# Altium footprint library Linear Technology Power Management LDO Linear Regulators.PcbLib: 77 footprints (part 5 of 5)
Each footprint in its own frame and in the unit in brackets; x right, y up, seen from the top. Pads: shape width x height; smd on the part's side, far side on the other; paste and mask are expansions set on the pad; w line width, h text height; cw(c..) or ccw(c..) is an arc to the next point about the centre after c.
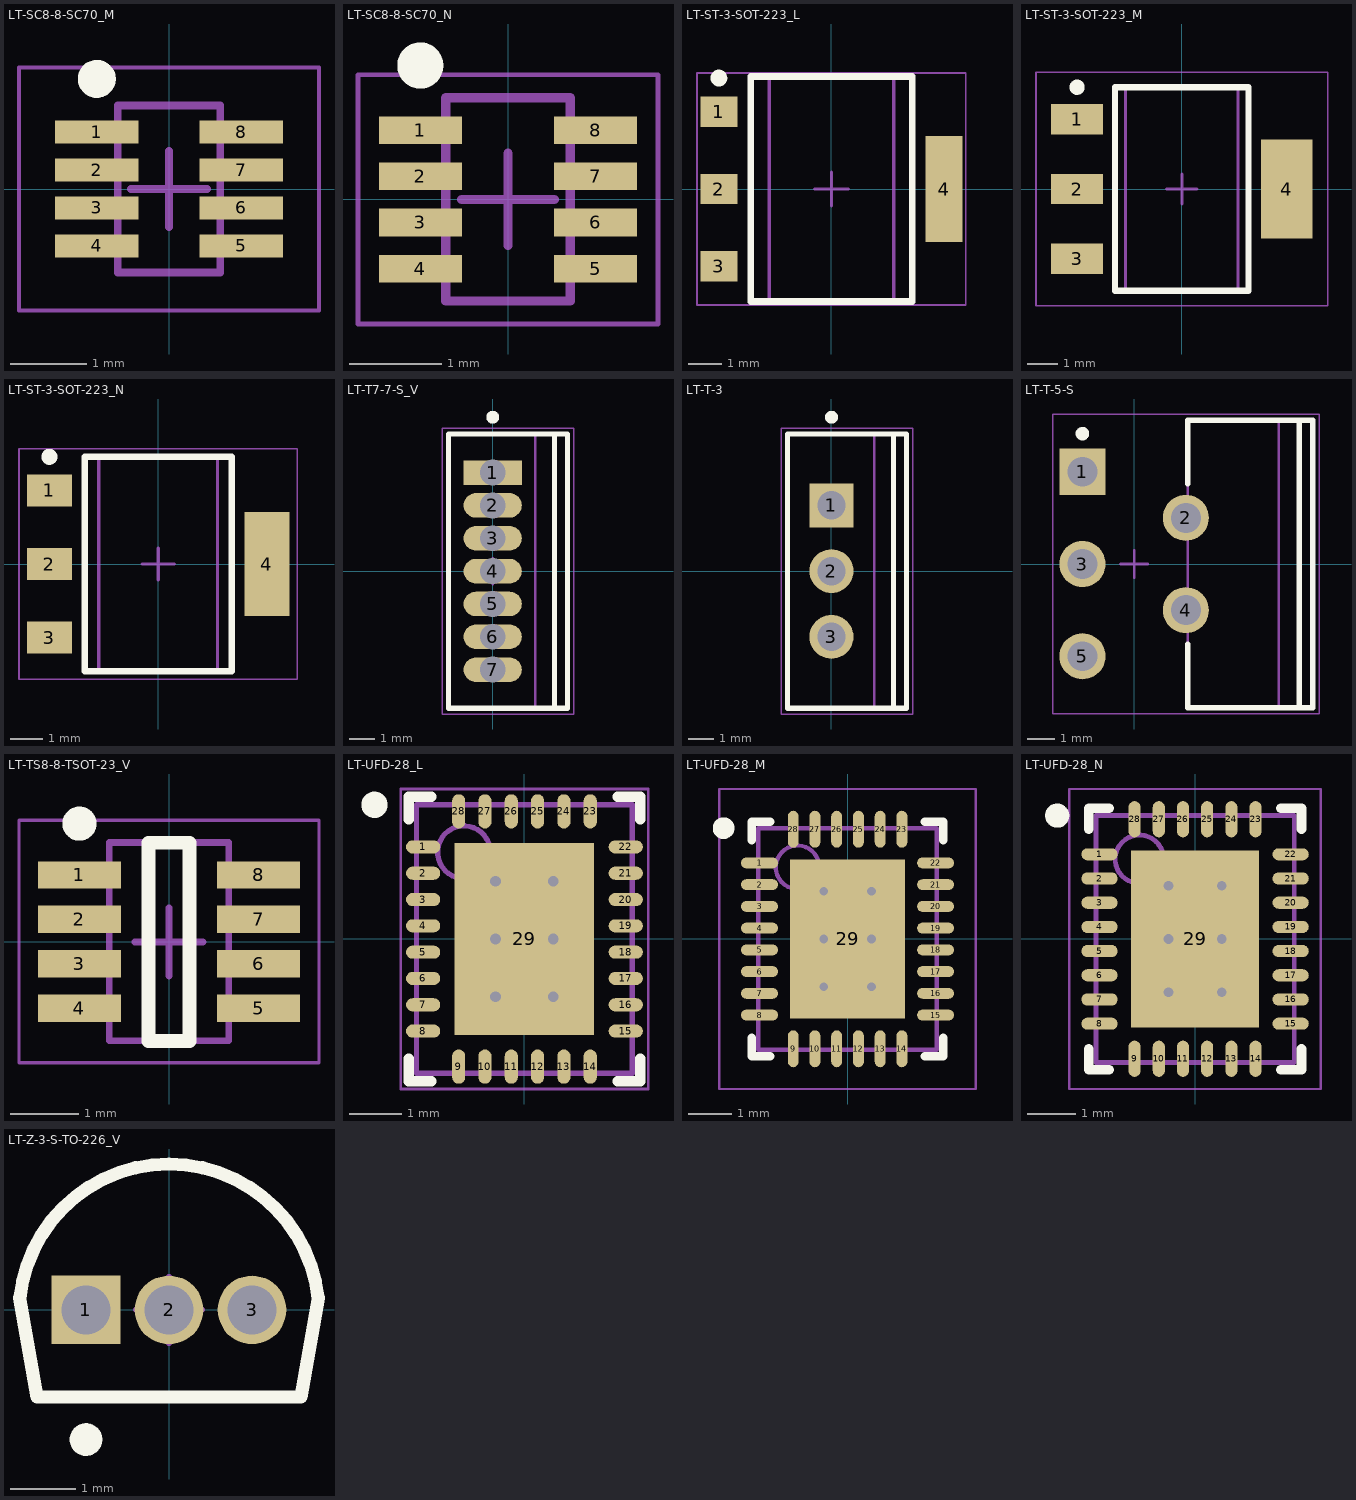
[diagram p4: the footprints below, top view; thin cyan lines are the x and y axes]

## LT-SC8-8-SC70_M [mm] "SOT23, 8-Leads, Body 2x1.25mm, Pitch 0.5mm, IPC Low Density"
height 1
pads (8):
  rect 1.1x0.3 smd: 1(-0.95,0.75) 2(-0.95,0.25) 3(-0.95,-0.25) 4(-0.95,-0.75) 5(0.95,-0.75) 6(0.95,-0.25) 7(0.95,0.25) 8(0.95,0.75)
Top Overlay:
  circle w0.25: c-0.95,1.45 r0.125
Mechanical 13:
  lines w0.1: -0.675,-1.1 0.675,-1.1 0.675,1.1 -0.675,1.1 -0.675,-1.1
Mechanical 15:
  lines w0.05: -1.975,-1.6 1.975,-1.6 1.975,1.6 -1.975,1.6 -1.975,-1.6
  lines w0.1: -0.5,0 0.5,0 ; 0,-0.5 0,0.5
3D body: height 1, standoff 0, extent -0.675,-1.1 0.675,1.1

## LT-SC8-8-SC70_N [mm] "SOT23, 8-Leads, Body 2x1.25mm, Pitch 0.5mm, IPC Medium Density"
height 1
pads (8):
  rect 0.9x0.3 smd: 1(-0.95,0.75) 2(-0.95,0.25) 3(-0.95,-0.25) 4(-0.95,-0.75) 5(0.95,-0.75) 6(0.95,-0.25) 7(0.95,0.25) 8(0.95,0.75)
Top Overlay:
  circle w0.25: c-0.95,1.45 r0.125
Mechanical 13:
  lines w0.1: -0.675,-1.1 0.675,-1.1 0.675,1.1 -0.675,1.1 -0.675,-1.1
Mechanical 15:
  lines w0.05: -1.625,-1.35 1.625,-1.35 1.625,1.35 -1.625,1.35 -1.625,-1.35
  lines w0.1: -0.5,0 0.5,0 ; 0,-0.5 0,0.5
3D body: height 1, standoff 0, extent -0.675,-1.1 0.675,1.1

## LT-ST-3-SOT-223_L [mm] "SOT223, 4-Leads, Body 6.505x3.505mm, Pitch 2.3mm, IPC High Density"
height 1.8
pads (4):
  rect 1.1x0.9 smd: 1(-3.35,2.3) 2(-3.35,0) 3(-3.35,-2.3)
  rect 1.1x3.15 smd: 4(3.35,0)
Top Overlay:
  circle w0.25: c-3.35,3.3 r0.125
  lines w0.2: -2.4,-3.35 -2.4,3.35 2.4,3.35 2.4,-3.35 -2.4,-3.35
Mechanical 13:
  lines w0.1: -1.855,-3.355 -1.855,3.355 1.855,3.355 1.855,-3.355 -1.855,-3.355
Mechanical 15:
  lines w0.05: -4,-3.45 -4,3.45 4,3.45 4,-3.45 -4,-3.45
  lines w0.1: -0.5,0 0.5,0 ; 0,-0.5 0,0.5
3D body: height 1.8, standoff 0.02, extent -1.855,-3.355 1.855,3.355

## LT-ST-3-SOT-223_M [mm] "SOT223, 4-Leads, Body 6.505x3.505mm, Pitch 2.3mm, IPC Low Density"
height 1.8
pads (4):
  rect 1.7x1 smd: 1(-3.45,2.3) 2(-3.45,0) 3(-3.45,-2.3)
  rect 1.7x3.25 smd: 4(3.45,0)
Top Overlay:
  circle w0.25: c-3.45,3.35 r0.125
  lines w0.2: -2.2,-3.35 -2.2,3.35 2.2,3.35 2.2,-3.35 -2.2,-3.35
Mechanical 13:
  lines w0.1: -1.855,-3.355 -1.855,3.355 1.855,3.355 1.855,-3.355 -1.855,-3.355
Mechanical 15:
  lines w0.05: -4.8,-3.85 -4.8,3.85 4.8,3.85 4.8,-3.85 -4.8,-3.85
  lines w0.1: -0.5,0 0.5,0 ; 0,-0.5 0,0.5
3D body: height 1.8, standoff 0.02, extent -1.855,-3.355 1.855,3.355

## LT-ST-3-SOT-223_N [mm] "SOT223, 4-Leads, Body 6.505x3.505mm, Pitch 2.3mm, IPC Medium Density"
height 1.8
pads (4):
  rect 1.4x1 smd: 1(-3.4,2.3) 2(-3.4,0) 3(-3.4,-2.3)
  rect 1.4x3.25 smd: 4(3.4,0)
Top Overlay:
  circle w0.25: c-3.4,3.35 r0.125
  lines w0.2: -2.3,-3.35 2.3,-3.35 2.3,3.35 -2.3,3.35 -2.3,-3.35
Mechanical 13:
  lines w0.1: -1.855,-3.355 1.855,-3.355 1.855,3.355 -1.855,3.355 -1.855,-3.355
Mechanical 15:
  lines w0.05: -4.35,-3.6 4.35,-3.6 4.35,3.6 -4.35,3.6 -4.35,-3.6
  lines w0.1: -0.5,0 0.5,0 ; 0,-0.5 0,0.5
3D body: height 1.8, standoff 0.02, extent -1.855,-3.355 1.855,3.355

## LT-T7-7-S_V [mm] "FM, 7-Leads, Body 10.55x4.6mm, Pitch 1.27mm"
height 15.75
pads (7):
  rect 2.25x0.95 hole 1: 1(0,3.81)
  oval 2.25x0.95 hole 1: 2(0,2.54) 3(0,1.27) 4(0,0) 5(0,-1.27) 6(0,-2.54) 7(0,-3.81)
Top Overlay:
  circle w0.25: c0,5.95 r0.125
  lines w0.2: 2.39,-5.3 2.39,5.3 ; -1.71,-5.3 -1.71,5.3 2.89,5.3 2.89,-5.3 -1.71,-5.3
Mechanical 13:
  lines w0.1: 1.64,-5.275 1.64,5.275 ; -1.71,-5.275 2.89,-5.275 2.89,5.275 -1.71,5.275 -1.71,-5.275
Mechanical 15:
  lines w0.05: -1.96,-5.525 3.14,-5.525 3.14,5.525 -1.96,5.525 -1.96,-5.525
  lines w0.1: -0.5,0 0.5,0 ; 0,-0.5 0,0.5
3D body: height 15.75, standoff 14.78, extent 1.64,-5.275 2.89,5.275
3D body: height 13.23, standoff 12.85, extent 1.64,-5.275 2.89,-1.925
3D body: height 13.23, standoff 12.85, extent 1.64,1.925 2.89,5.275
3D body: height 12.85, standoff 12.47, extent 1.64,-5.275 2.89,-1.925
3D body: height 12.85, standoff 12.47, extent 1.64,1.925 2.89,5.275
3D body: height 13.59, standoff 13.23, extent 1.64,-5.275 2.89,-1.888
3D body: height 13.59, standoff 13.23, extent 1.64,1.888 2.89,5.275
3D body: height 12.48, standoff 12.11, extent 1.64,-5.275 2.89,-1.888
3D body: height 12.48, standoff 12.11, extent 1.64,1.888 2.89,5.275
3D body: height 13.92, standoff 13.59, extent 1.64,-5.275 2.89,-1.778
3D body: height 13.92, standoff 13.59, extent 1.64,1.778 2.89,5.275
3D body: height 12.12, standoff 11.78, extent 1.64,-5.275 2.89,-1.778
3D body: height 12.12, standoff 11.78, extent 1.64,1.778 2.89,5.275
3D body: height 14.22, standoff 13.92, extent 1.64,-5.275 2.89,-1.601
3D body: height 14.22, standoff 13.92, extent 1.64,1.601 2.89,5.275
3D body: height 11.79, standoff 11.49, extent 1.64,-5.275 2.89,-1.601
3D body: height 11.79, standoff 11.49, extent 1.64,1.601 2.89,5.275
3D body: height 14.46, standoff 14.21, extent 1.64,-5.275 2.89,-1.361
3D body: height 14.46, standoff 14.21, extent 1.64,1.361 2.89,5.275
3D body: height 11.49, standoff 11.25, extent 1.64,-5.275 2.89,-1.361
3D body: height 11.49, standoff 11.25, extent 1.64,1.361 2.89,5.275
3D body: height 14.63, standoff 14.45, extent 1.64,-5.275 2.89,-1.069
3D body: height 14.63, standoff 14.45, extent 1.64,1.069 2.89,5.275
3D body: height 11.25, standoff 11.07, extent 1.64,-5.275 2.89,-1.069
3D body: height 11.25, standoff 11.07, extent 1.64,1.069 2.89,5.275
3D body: height 14.74, standoff 14.63, extent 1.64,-5.275 2.89,-0.737
3D body: height 14.74, standoff 14.63, extent 1.64,0.737 2.89,5.275
3D body: height 11.08, standoff 10.96, extent 1.64,-5.275 2.89,-0.737
3D body: height 11.08, standoff 10.96, extent 1.64,0.737 2.89,5.275
3D body: height 14.78, standoff 14.74, extent 1.64,-5.275 2.89,-0.376
3D body: height 14.78, standoff 14.74, extent 1.64,0.376 2.89,5.275
3D body: height 10.97, standoff 10.93, extent 1.64,-5.275 2.89,-0.376
3D body: height 10.97, standoff 10.93, extent 1.64,0.376 2.89,5.275
3D body: height 10.93, standoff 9.4, extent 1.64,-5.275 2.89,5.275
3D body: height 9.4, standoff 0, extent -1.71,-5.275 2.89,5.275
3D body: height 0, standoff -1.6, extent -0.23,-4.205 0.23,-3.415
3D body: height 0, standoff -1.6, extent -0.23,-2.935 0.23,-2.145
3D body: height 0, standoff -1.6, extent -0.23,-1.665 0.23,-0.875
3D body: height 0, standoff -1.6, extent -0.23,-0.395 0.23,0.395
3D body: height 0, standoff -1.6, extent -0.23,0.875 0.23,1.665
3D body: height 0, standoff -1.6, extent -0.23,2.145 0.23,2.935
3D body: height 0, standoff -1.6, extent -0.23,3.415 0.23,4.205

## LT-T-3 [mm] "T, 3-Leads, Body 10.55x4.6mm, Pitch 2.54mm"
height 22.15
pads (3):
  rect 1.7x1.7 hole 1.1: 1(0,2.54)
  round 1.7 hole 1.1: 2(0,0) 3(0,-2.54)
Top Overlay:
  circle w0.25: c0,5.95 r0.125
  lines w0.2: 2.4,-5.3 2.4,5.3 ; -1.7,-5.3 -1.7,5.3 2.9,5.3 2.9,-5.3 -1.7,-5.3
Mechanical 13:
  lines w0.1: 1.65,-5.275 1.65,5.275 ; -1.7,-5.275 2.9,-5.275 2.9,5.275 -1.7,5.275 -1.7,-5.275
Mechanical 15:
  lines w0.05: -1.95,-5.525 3.15,-5.525 3.15,5.525 -1.95,5.525 -1.95,-5.525
  lines w0.1: -0.5,0 0.5,0 ; 0,-0.5 0,0.5
3D body: height 22.15, standoff 21.18, extent 1.65,-5.1 2.9,5.1
3D body: height 19.63, standoff 19.25, extent 1.65,-5.1 2.9,-1.925
3D body: height 19.63, standoff 19.25, extent 1.65,1.925 2.9,5.1
3D body: height 19.25, standoff 18.87, extent 1.65,-5.1 2.9,-1.925
3D body: height 19.25, standoff 18.87, extent 1.65,1.925 2.9,5.1
3D body: height 19.99, standoff 19.63, extent 1.65,-5.1 2.9,-1.888
3D body: height 19.99, standoff 19.63, extent 1.65,1.888 2.9,5.1
3D body: height 18.88, standoff 18.51, extent 1.65,-5.1 2.9,-1.888
3D body: height 18.88, standoff 18.51, extent 1.65,1.888 2.9,5.1
3D body: height 20.32, standoff 19.99, extent 1.65,-5.1 2.9,-1.778
3D body: height 20.32, standoff 19.99, extent 1.65,1.778 2.9,5.1
3D body: height 18.52, standoff 18.18, extent 1.65,-5.1 2.9,-1.778
3D body: height 18.52, standoff 18.18, extent 1.65,1.778 2.9,5.1
3D body: height 20.62, standoff 20.32, extent 1.65,-5.1 2.9,-1.601
3D body: height 20.62, standoff 20.32, extent 1.65,1.601 2.9,5.1
3D body: height 18.19, standoff 17.89, extent 1.65,-5.1 2.9,-1.601
3D body: height 18.19, standoff 17.89, extent 1.65,1.601 2.9,5.1
3D body: height 20.86, standoff 20.61, extent 1.65,-5.1 2.9,-1.361
3D body: height 20.86, standoff 20.61, extent 1.65,1.361 2.9,5.1
3D body: height 17.89, standoff 17.65, extent 1.65,-5.1 2.9,-1.361
3D body: height 17.89, standoff 17.65, extent 1.65,1.361 2.9,5.1
3D body: height 21.03, standoff 20.85, extent 1.65,-5.1 2.9,-1.069
3D body: height 21.03, standoff 20.85, extent 1.65,1.069 2.9,5.1
3D body: height 17.65, standoff 17.47, extent 1.65,-5.1 2.9,-1.069
3D body: height 17.65, standoff 17.47, extent 1.65,1.069 2.9,5.1
3D body: height 21.14, standoff 21.03, extent 1.65,-5.1 2.9,-0.737
3D body: height 21.14, standoff 21.03, extent 1.65,0.737 2.9,5.1
3D body: height 17.48, standoff 17.36, extent 1.65,-5.1 2.9,-0.737
3D body: height 17.48, standoff 17.36, extent 1.65,0.737 2.9,5.1
3D body: height 21.18, standoff 21.14, extent 1.65,-5.1 2.9,-0.376
3D body: height 21.18, standoff 21.14, extent 1.65,0.376 2.9,5.1
3D body: height 17.37, standoff 17.33, extent 1.65,-5.1 2.9,-0.376
3D body: height 17.37, standoff 17.33, extent 1.65,0.376 2.9,5.1
3D body: height 17.33, standoff 15.8, extent 1.65,-5.1 2.9,5.1
3D body: height 15.8, standoff 5.53, extent -1.7,-5.275 2.9,5.275
3D body: height 0, standoff -1.6, extent -0.23,-2.96 0.23,-2.12
3D body: height 5.53, standoff 0, extent -0.23,-3.175 0.23,-1.905
3D body: height 0, standoff -1.6, extent -0.23,-0.42 0.23,0.42
3D body: height 5.53, standoff 0, extent -0.23,-0.635 0.23,0.635
3D body: height 0, standoff -1.6, extent -0.23,2.12 0.23,2.96
3D body: height 5.53, standoff 0, extent -0.23,1.905 0.23,3.175

## LT-T-5-S [mm] "FM, 5-Leads, Body 10.2235x4.3815mm, Pitch 1.7mm"
height 22.23
pads (5):
  rect 1.7x1.7 hole 1.1: 1(-1.905,3.4)
  round 1.7 hole 1.1: 2(1.905,1.7) 3(-1.905,0) 4(1.905,-1.7) 5(-1.905,-3.4)
Top Overlay:
  circle w0.25: c-1.905,4.8 r0.125
  lines w0.2: 1.975,-2.95 1.975,-5.3 6.575,-5.3 6.575,5.3 1.975,5.3 1.975,2.95 ; 6.075,-5.3 6.075,5.3
Mechanical 13:
  lines w0.1: 5.325,-5.275 5.325,5.275 ; 1.975,-5.275 1.975,5.275 6.575,5.275 6.575,-5.275 1.975,-5.275
Mechanical 15:
  lines w0.05: -3.005,-5.525 -3.005,5.525 6.825,5.525 6.825,-5.525 -3.005,-5.525
  lines w0.1: -0.5,0 0.5,0 ; 0,-0.5 0,0.5
3D body: height 1.84, standoff 0, extent -2.135,2.8 -1.675,4
3D body: height 2.3, standoff 1.84, extent -2.135,2.8 4.505,4
3D body: height 4.14, standoff 2.3, extent 4.045,2.8 4.505,4
3D body: height 0, standoff -1.6, extent -2.135,2.98 -1.675,3.82
3D body: height 1.84, standoff 0, extent 1.675,1.1 2.135,2.3
3D body: height 2.3, standoff 1.84, extent 1.675,1.1 4.505,2.3
3D body: height 4.14, standoff 2.3, extent 4.045,1.1 4.505,2.3
3D body: height 0, standoff -1.6, extent 1.675,1.28 2.135,2.12
3D body: height 1.84, standoff 0, extent -2.135,-0.6 -1.675,0.6
3D body: height 2.3, standoff 1.84, extent -2.135,-0.6 4.505,0.6
3D body: height 4.14, standoff 2.3, extent 4.045,-0.6 4.505,0.6
3D body: height 0, standoff -1.6, extent -2.135,-0.42 -1.675,0.42
3D body: height 1.84, standoff 0, extent 1.675,-2.3 2.135,-1.1
3D body: height 2.3, standoff 1.84, extent 1.675,-2.3 4.505,-1.1
3D body: height 4.14, standoff 2.3, extent 4.045,-2.3 4.505,-1.1
3D body: height 0, standoff -1.6, extent 1.675,-2.12 2.135,-1.28
3D body: height 1.84, standoff 0, extent -2.135,-4 -1.675,-2.8
3D body: height 2.3, standoff 1.84, extent -2.135,-4 4.505,-2.8
3D body: height 4.14, standoff 2.3, extent 4.045,-4 4.505,-2.8
3D body: height 0, standoff -1.6, extent -2.135,-3.82 -1.675,-2.98
3D body: height 15.88, standoff 4.14, extent 1.975,-5.275 6.575,5.275
3D body: height 17.41, standoff 15.88, extent 5.325,-5.275 6.575,5.275
3D body: height 17.45, standoff 17.41, extent 5.325,0.376 6.575,5.275
3D body: height 17.45, standoff 17.41, extent 5.325,-5.275 6.575,-0.376
3D body: height 21.26, standoff 21.22, extent 5.325,0.376 6.575,5.275
3D body: height 21.26, standoff 21.22, extent 5.325,-5.275 6.575,-0.376
3D body: height 17.56, standoff 17.44, extent 5.325,0.737 6.575,5.275
3D body: height 17.56, standoff 17.44, extent 5.325,-5.275 6.575,-0.737
3D body: height 21.22, standoff 21.11, extent 5.325,0.737 6.575,5.275
3D body: height 21.22, standoff 21.11, extent 5.325,-5.275 6.575,-0.737
3D body: height 17.73, standoff 17.55, extent 5.325,1.069 6.575,5.275
3D body: height 17.73, standoff 17.55, extent 5.325,-5.275 6.575,-1.069
3D body: height 21.11, standoff 20.93, extent 5.325,1.069 6.575,5.275
3D body: height 21.11, standoff 20.93, extent 5.325,-5.275 6.575,-1.069
3D body: height 17.97, standoff 17.73, extent 5.325,1.361 6.575,5.275
3D body: height 17.97, standoff 17.73, extent 5.325,-5.275 6.575,-1.361
3D body: height 20.94, standoff 20.69, extent 5.325,1.361 6.575,5.275
3D body: height 20.94, standoff 20.69, extent 5.325,-5.275 6.575,-1.361
3D body: height 18.27, standoff 17.97, extent 5.325,1.601 6.575,5.275
3D body: height 18.27, standoff 17.97, extent 5.325,-5.275 6.575,-1.601
3D body: height 20.7, standoff 20.4, extent 5.325,1.601 6.575,5.275
3D body: height 20.7, standoff 20.4, extent 5.325,-5.275 6.575,-1.601
3D body: height 18.6, standoff 18.26, extent 5.325,1.778 6.575,5.275
3D body: height 18.6, standoff 18.26, extent 5.325,-5.275 6.575,-1.778
3D body: height 20.4, standoff 20.07, extent 5.325,1.778 6.575,5.275
3D body: height 20.4, standoff 20.07, extent 5.325,-5.275 6.575,-1.778
3D body: height 18.96, standoff 18.59, extent 5.325,1.888 6.575,5.275
3D body: height 18.96, standoff 18.59, extent 5.325,-5.275 6.575,-1.888
3D body: height 20.07, standoff 19.71, extent 5.325,1.888 6.575,5.275
3D body: height 20.07, standoff 19.71, extent 5.325,-5.275 6.575,-1.888
3D body: height 19.33, standoff 18.95, extent 5.325,1.925 6.575,5.275
3D body: height 19.33, standoff 18.95, extent 5.325,-5.275 6.575,-1.925
3D body: height 19.71, standoff 19.33, extent 5.325,1.925 6.575,5.275
3D body: height 19.71, standoff 19.33, extent 5.325,-5.275 6.575,-1.925
3D body: height 22.23, standoff 21.26, extent 5.325,-5.275 6.575,5.275

## LT-TS8-8-TSOT-23_V [mm] "SOT23, 8-Leads, Body 2.90x1.63mm, Pitch 0.65mm, Recommended"
height 1
pads (8):
  rect 1.22x0.4 smd: 1(-1.31,0.975) 2(-1.31,0.325) 3(-1.31,-0.325) 4(-1.31,-0.975) 5(1.31,-0.975) 6(1.31,-0.325) 7(1.31,0.325) 8(1.31,0.975)
Top Overlay:
  circle w0.25: c-1.31,1.726 r0.125
  lines w0.2: -0.3,-1.454 0.3,-1.454 0.3,1.446 -0.3,1.446 -0.3,-1.454
Mechanical 13:
  lines w0.1: -0.875,-1.45 -0.875,1.45 0.875,1.45 0.875,-1.45 -0.875,-1.45
Mechanical 15:
  lines w0.05: -2.195,-1.775 -2.195,-1.55 -2.195,1.55 -2.195,1.775 -1.75,1.775 1.75,1.775 2.195,1.775 2.195,1.55 2.195,-1.55 2.195,-1.775 1.75,-1.775 -1.75,-1.775 -2.195,-1.775
  lines w0.1: -0.501,-0.004 0.499,-0.004 ; -0.001,-0.504 -0.001,0.496
3D body: height 1, standoff 0.01, extent -0.875,-1.45 0.875,1.45

## LT-UFD-28_L [mm] "QFN, 28-Leads, Body 5x4mm, Pitch 0.5mm, Thermal Pad 3.65x2.65mm, IPC High Density"
height 0.8
pads (29):
  oval 0.65x0.25 smd: 1(-1.925,1.75) 2(-1.925,1.25) 3(-1.925,0.75) 4(-1.925,0.25) 5(-1.925,-0.25) 6(-1.925,-0.75) 7(-1.925,-1.25) 8(-1.925,-1.75) 15(1.925,-1.75) 16(1.925,-1.25) 17(1.925,-0.75) 18(1.925,-0.25) 19(1.925,0.25) 20(1.925,0.75) 21(1.925,1.25) 22(1.925,1.75)
  oval 0.25x0.65 smd: 9(-1.25,-2.425) 10(-0.75,-2.425) 11(-0.25,-2.425) 12(0.25,-2.425) 13(0.75,-2.425) 14(1.25,-2.425) 23(1.25,2.425) 24(0.75,2.425) 25(0.25,2.425) 26(-0.25,2.425) 27(-0.75,2.425) 28(-1.25,2.425)
  rect 2.65x3.65 smd: 29(0,0)
via 0.55,-1.1 diameter 0.5 hole 0.2
via -0.55,-1.1 diameter 0.5 hole 0.2
via 0.55,0 diameter 0.5 hole 0.2
via -0.55,0 diameter 0.5 hole 0.2
via 0.55,1.1 diameter 0.5 hole 0.2
via -0.55,1.1 diameter 0.5 hole 0.2
Top Overlay:
  circle w0.25: c-2.85,2.55 r0.125
  lines w0.2: -2.2,-2.275 -2.2,-2.7 -1.775,-2.7 ; -2.2,2.275 -2.2,2.7 -1.775,2.7 ; 1.775,-2.7 2.2,-2.7 2.2,-2.275 ; 1.775,2.7 2.2,2.7 2.2,2.275
Mechanical 13:
  circle w0.1: c-1.15,1.65 r0.5
  lines w0.1: -2.05,-2.55 2.05,-2.55 2.05,2.55 -2.05,2.55 -2.05,-2.55
Mechanical 15:
  lines w0.05: -2.35,-2.85 2.35,-2.85 2.35,2.85 -2.35,2.85 -2.35,-2.85
  lines w0.1: -0.5,0 0.5,0 ; 0,-0.5 0,0.5
3D body: height 0.8, standoff 0, extent -2.05,-2.55 2.05,2.55

## LT-UFD-28_M [mm] "QFN, 28-Leads, Body 5x4mm, Pitch 0.5mm, Thermal Pad 3.65x2.65mm, IPC Low Density"
height 0.8
pads (29):
  oval 0.85x0.25 smd: 1(-2.025,1.75) 2(-2.025,1.25) 3(-2.025,0.75) 4(-2.025,0.25) 5(-2.025,-0.25) 6(-2.025,-0.75) 7(-2.025,-1.25) 8(-2.025,-1.75) 15(2.025,-1.75) 16(2.025,-1.25) 17(2.025,-0.75) 18(2.025,-0.25) 19(2.025,0.25) 20(2.025,0.75) 21(2.025,1.25) 22(2.025,1.75)
  oval 0.25x0.85 smd: 9(-1.25,-2.525) 10(-0.75,-2.525) 11(-0.25,-2.525) 12(0.25,-2.525) 13(0.75,-2.525) 14(1.25,-2.525) 23(1.25,2.525) 24(0.75,2.525) 25(0.25,2.525) 26(-0.25,2.525) 27(-0.75,2.525) 28(-1.25,2.525)
  rect 2.65x3.65 smd: 29(0,0)
via 0.55,-1.1 diameter 0.5 hole 0.2
via -0.55,-1.1 diameter 0.5 hole 0.2
via 0.55,0 diameter 0.5 hole 0.2
via -0.55,0 diameter 0.5 hole 0.2
via 0.55,1.1 diameter 0.5 hole 0.2
via -0.55,1.1 diameter 0.5 hole 0.2
Top Overlay:
  circle w0.25: c-2.85,2.55 r0.125
  lines w0.2: -2.2,-2.275 -2.2,-2.7 -1.775,-2.7 ; -2.2,2.275 -2.2,2.7 -1.775,2.7 ; 1.775,-2.7 2.2,-2.7 2.2,-2.275 ; 1.775,2.7 2.2,2.7 2.2,2.275
Mechanical 13:
  circle w0.1: c-1.15,1.65 r0.5
  lines w0.1: -2.05,-2.55 2.05,-2.55 2.05,2.55 -2.05,2.55 -2.05,-2.55
Mechanical 15:
  lines w0.05: -2.95,-3.45 2.95,-3.45 2.95,3.45 -2.95,3.45 -2.95,-3.45
  lines w0.1: -0.5,0 0.5,0 ; 0,-0.5 0,0.5
3D body: height 0.8, standoff 0, extent -2.05,-2.55 2.05,2.55

## LT-UFD-28_N [mm] "QFN, 28-Leads, Body 5x4mm, Pitch 0.5mm, Thermal Pad 3.65x2.65mm, IPC Medium Density"
height 0.8
pads (29):
  oval 0.75x0.25 smd: 1(-1.975,1.75) 2(-1.975,1.25) 3(-1.975,0.75) 4(-1.975,0.25) 5(-1.975,-0.25) 6(-1.975,-0.75) 7(-1.975,-1.25) 8(-1.975,-1.75) 15(1.975,-1.75) 16(1.975,-1.25) 17(1.975,-0.75) 18(1.975,-0.25) 19(1.975,0.25) 20(1.975,0.75) 21(1.975,1.25) 22(1.975,1.75)
  oval 0.25x0.75 smd: 9(-1.25,-2.475) 10(-0.75,-2.475) 11(-0.25,-2.475) 12(0.25,-2.475) 13(0.75,-2.475) 14(1.25,-2.475) 23(1.25,2.475) 24(0.75,2.475) 25(0.25,2.475) 26(-0.25,2.475) 27(-0.75,2.475) 28(-1.25,2.475)
  rect 2.65x3.65 smd: 29(0,0)
via 0.55,-1.1 diameter 0.5 hole 0.2
via -0.55,-1.1 diameter 0.5 hole 0.2
via 0.55,0 diameter 0.5 hole 0.2
via -0.55,0 diameter 0.5 hole 0.2
via 0.55,1.1 diameter 0.5 hole 0.2
via -0.55,1.1 diameter 0.5 hole 0.2
Top Overlay:
  circle w0.25: c-2.85,2.55 r0.125
  lines w0.2: -2.2,-2.275 -2.2,-2.7 -1.775,-2.7 ; -2.2,2.275 -2.2,2.7 -1.775,2.7 ; 1.775,-2.7 2.2,-2.7 2.2,-2.275 ; 1.775,2.7 2.2,2.7 2.2,2.275
Mechanical 13:
  circle w0.1: c-1.15,1.65 r0.5
  lines w0.1: -2.05,-2.55 2.05,-2.55 2.05,2.55 -2.05,2.55 -2.05,-2.55
Mechanical 15:
  lines w0.05: -2.6,-3.1 2.6,-3.1 2.6,3.1 -2.6,3.1 -2.6,-3.1
  lines w0.1: -0.5,0 0.5,0 ; 0,-0.5 0,0.5
3D body: height 0.8, standoff 0, extent -2.05,-2.55 2.05,2.55

## LT-Z-3-S-TO-226_V [mm] "TO-92, 3-Leads, Body 4.572x3.556mm, Pitch 1.27mm"
height 5.969
pads (3):
  rect 1.05x1.05 hole 0.75: 1(-1.27,0)
  round 1.05 hole 0.75: 2(0,0) 3(1.27,0)
Top Overlay:
  circle w0.25: c-1.27,-1.984 r0.125
  lines w0.2: -2.286,0.191 -2.017,-1.333 2.017,-1.333 2.286,0.191 ; -2.281,0.19 cw(c0,-0.062) 2.281,0.19
Mechanical 13:
  lines w0.1: -2.286,0.191 -2.017,-1.333 2.017,-1.333 2.286,0.191 ; -2.281,0.19 cw(c0,-0.062) 2.281,0.19
Mechanical 15:
  lines w0.1: -0.5,0 0.5,0 ; 0,-0.5 0,0.5
3D body: height 0, standoff -1.6, extent -0.135,-0.36 0.135,0.36
3D body: height 0, standoff -1.6, extent -1.405,-0.36 -1.135,0.36
3D body: height 1.27, standoff 0, extent -0.127,-0.5 0.143,0.5
3D body: height 1.27, standoff 0, extent 1.135,-0.5 1.405,0.5
3D body: height 1.27, standoff 0, extent -1.405,-0.5 -1.135,0.5
3D body: height 5.97, standoff 1.27, extent -2.285,-1.333 2.285,0.19
3D body: height 5.97, standoff 1.27, extent -2.281,0.19 2.286,2.235
3D body: height 0, standoff -1.6, extent 1.135,-0.36 1.405,0.36
3D body: height 1, standoff 0, extent -1.524,-0.254 -1.016,-0.254